# Altium schematic symbol library IC - AS5600-ASOM.SchLib: 1 symbol
Pins are listed as number, name and electrical type; pins without a type are passive.

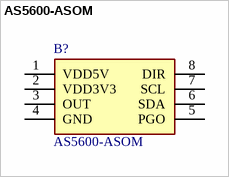
[diagram p0: symbol AS5600-ASOM]

## AS5600-ASOM
designator B?
IC SENSOR MAG ROTARY 12BIT 8SOIC; Manufacturer_Name: ams OSRAM; Geometry.Height: 1.75mm; Mouser Part Number: 985-AS5600-ASOM; Mouser Price/Stock: https://www.mouser.co.uk/ProductDetail/ams-OSRAM/AS5600-ASOM?qs=KTMMzrZdriG6aU1h9lJCUQ%3D%3D; Manufacturer_Part_Number: AS5600-ASOM; Datasheet Link: https://datasheet.datasheetarchive.com/originals/distributors/DKDS-11/214624.pdf; Supplier 1: Mouser; Supplier Part Number 1: 985-AS5600-ASOM
footprint SOIC-8 - OSRAM
pins: 1 VDD5V, 2 VDD3V3, 3 OUT, 4 GND, 5 PGO, 6 SDA, 7 SCL, 8 DIR